# Altium footprint library Connector_PinHeader_1.27mm.PcbLib: 278 footprints (part 15 of 18)
Each footprint in its own frame and in the unit in brackets; x right, y up, seen from the top. Pads: shape width x height; smd on the part's side, far side on the other; paste and mask are expansions set on the pad; w line width, h text height; cw(c..) or ccw(c..) is an arc to the next point about the centre after c.
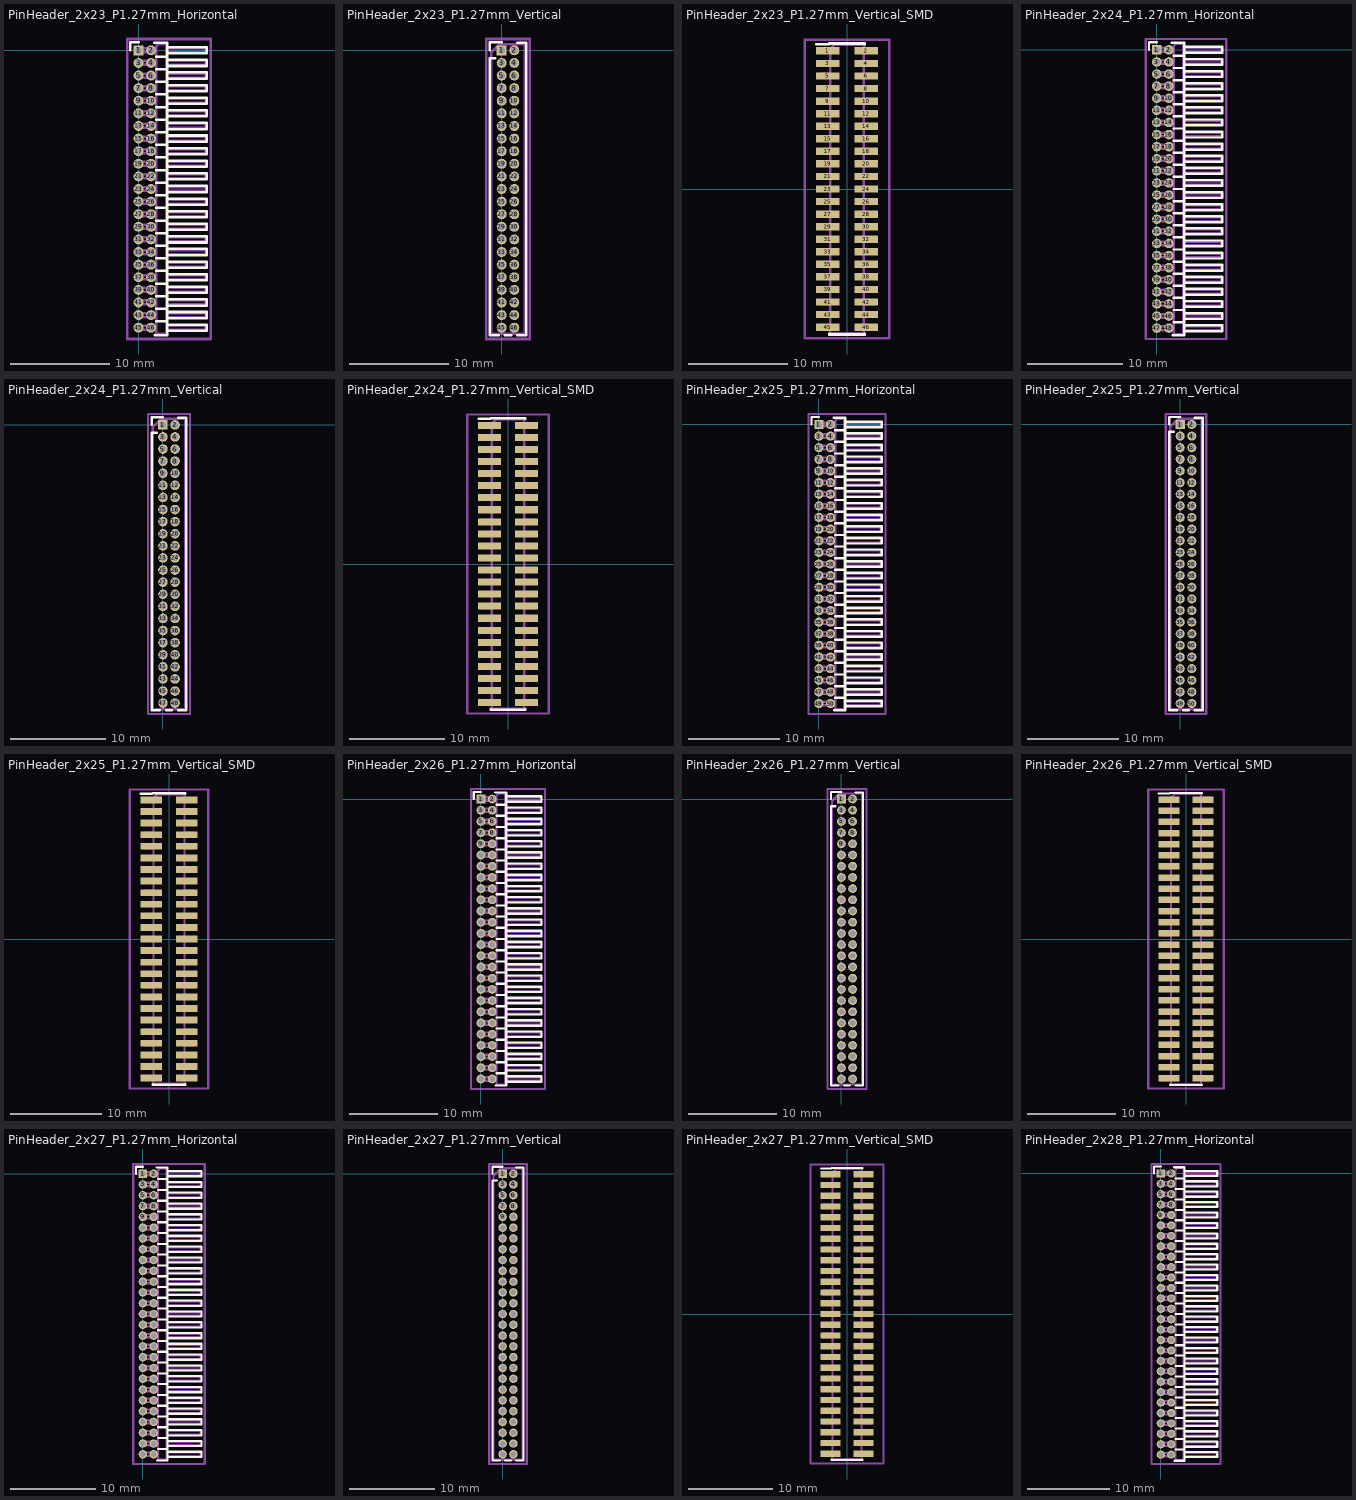
[diagram p14: the footprints below, top view; thin cyan lines are the x and y axes]

## PinHeader_2x23_P1.27mm_Horizontal [mm]
pads (46):
  rect 1x1 hole 0.65: 1(0,0)
  round 1 hole 0.65: 2(1.27,0) 3(0,-1.27) 4(1.27,-1.27) 5(0,-2.54) 6(1.27,-2.54) 7(0,-3.81) 8(1.27,-3.81) 9(0,-5.08) 10(1.27,-5.08) 11(0,-6.35) 12(1.27,-6.35) 13(0,-7.62) 14(1.27,-7.62) 15(0,-8.89) 16(1.27,-8.89) 17(0,-10.16) 18(1.27,-10.16) 19(0,-11.43) 20(1.27,-11.43) 21(0,-12.7) 22(1.27,-12.7) 23(0,-13.97) 24(1.27,-13.97) 25(0,-15.24) 26(1.27,-15.24) 27(0,-16.51) 28(1.27,-16.51) 29(0,-17.78) 30(1.27,-17.78) 31(0,-19.05) 32(1.27,-19.05) 33(0,-20.32) 34(1.27,-20.32) 35(0,-21.59) 36(1.27,-21.59) 37(0,-22.86) 38(1.27,-22.86) 39(0,-24.13) 40(1.27,-24.13) 41(0,-25.4) 42(1.27,-25.4) 43(0,-26.67) 44(1.27,-26.67) 45(0,-27.94) 46(1.27,-27.94)
F.SilkS:
  lines w0.254: -0.81,0 -0.81,0.81 0,0.81 ; 1.588,0.745 2.88,0.745 2.88,-28.685 1.66,-28.685 ; 1.773,-27.305 2.88,-27.305 ; 1.773,-26.035 2.88,-26.035 ; 1.773,-24.765 2.88,-24.765 ; 1.773,-23.495 2.88,-23.495 ; 1.773,-22.225 2.88,-22.225 ; 1.773,-20.955 2.88,-20.955 ; 1.773,-19.685 2.88,-19.685 ; 1.773,-18.415 2.88,-18.415 ; 1.773,-17.145 2.88,-17.145 ; 1.773,-15.875 2.88,-15.875 ; 1.773,-14.605 2.88,-14.605 ; 1.773,-13.335 2.88,-13.335 ; 1.773,-12.065 2.88,-12.065 ; 1.773,-10.795 2.88,-10.795 ; 1.773,-9.525 2.88,-9.525 ; 1.773,-8.255 2.88,-8.255 ; 1.773,-6.985 2.88,-6.985 ; 1.773,-5.715 2.88,-5.715 ; 1.773,-4.445 2.88,-4.445 ; 1.773,-3.175 2.88,-3.175 ; 1.773,-1.905 2.88,-1.905 ; 1.773,-0.635 2.88,-0.635 ; 2.88,-28.25 6.88,-28.25 6.88,-27.63 2.88,-27.63 ; 2.88,-26.98 6.88,-26.98 6.88,-26.36 2.88,-26.36 ; 2.88,-25.71 6.88,-25.71 6.88,-25.09 2.88,-25.09 ; 2.88,-24.44 6.88,-24.44 6.88,-23.82 2.88,-23.82 ; 2.88,-23.17 6.88,-23.17 6.88,-22.55 2.88,-22.55 ; 2.88,-21.9 6.88,-21.9 6.88,-21.28 2.88,-21.28 ; 2.88,-20.63 6.88,-20.63 6.88,-20.01 2.88,-20.01 ; 2.88,-19.36 6.88,-19.36 6.88,-18.74 2.88,-18.74 ; 2.88,-18.09 6.88,-18.09 6.88,-17.47 2.88,-17.47 ; 2.88,-16.82 6.88,-16.82 6.88,-16.2 2.88,-16.2 ; 2.88,-15.55 6.88,-15.55 6.88,-14.93 2.88,-14.93 ; 2.88,-14.28 6.88,-14.28 6.88,-13.66 2.88,-13.66 ; 2.88,-13.01 6.88,-13.01 6.88,-12.39 2.88,-12.39 ; 2.88,-11.74 6.88,-11.74 6.88,-11.12 2.88,-11.12 ; 2.88,-10.47 6.88,-10.47 6.88,-9.85 2.88,-9.85 ; 2.88,-9.2 6.88,-9.2 6.88,-8.58 2.88,-8.58 ; 2.88,-7.93 6.88,-7.93 6.88,-7.31 2.88,-7.31 ; 2.88,-6.66 6.88,-6.66 6.88,-6.04 2.88,-6.04 ; 2.88,-5.39 6.88,-5.39 6.88,-4.77 2.88,-4.77 ; 2.88,-4.12 6.88,-4.12 6.88,-3.5 2.88,-3.5 ; 2.88,-2.85 6.88,-2.85 6.88,-2.23 2.88,-2.23 ; 2.88,-1.58 6.88,-1.58 6.88,-0.96 2.88,-0.96 ; 2.88,-0.31 6.88,-0.31 6.88,0.31 2.88,0.31 2.88,-0.31
Top Assembly:
  lines w0.254: 1.77,-28.14 -0.2,-28.14 -0.2,-27.74 1.77,-27.74 ; 1.77,-26.87 -0.2,-26.87 -0.2,-26.47 1.77,-26.47 ; 1.77,-25.6 -0.2,-25.6 -0.2,-25.2 1.77,-25.2 ; 1.77,-24.33 -0.2,-24.33 -0.2,-23.93 1.77,-23.93 ; 1.77,-23.06 -0.2,-23.06 -0.2,-22.66 1.77,-22.66 ; 1.77,-21.79 -0.2,-21.79 -0.2,-21.39 1.77,-21.39 ; 1.77,-20.52 -0.2,-20.52 -0.2,-20.12 1.77,-20.12 ; 1.77,-19.25 -0.2,-19.25 -0.2,-18.85 1.77,-18.85 ; 1.77,-17.98 -0.2,-17.98 -0.2,-17.58 1.77,-17.58 ; 1.77,-16.71 -0.2,-16.71 -0.2,-16.31 1.77,-16.31 ; 1.77,-15.44 -0.2,-15.44 -0.2,-15.04 1.77,-15.04 ; 1.77,-14.17 -0.2,-14.17 -0.2,-13.77 1.77,-13.77 ; 1.77,-12.9 -0.2,-12.9 -0.2,-12.5 1.77,-12.5 ; 1.77,-11.63 -0.2,-11.63 -0.2,-11.23 1.77,-11.23 ; 1.77,-10.36 -0.2,-10.36 -0.2,-9.96 1.77,-9.96 ; 1.77,-9.09 -0.2,-9.09 -0.2,-8.69 1.77,-8.69 ; 1.77,-7.82 -0.2,-7.82 -0.2,-7.42 1.77,-7.42 ; 1.77,-6.55 -0.2,-6.55 -0.2,-6.15 1.77,-6.15 ; 1.77,-5.28 -0.2,-5.28 -0.2,-4.88 1.77,-4.88 ; 1.77,-4.01 -0.2,-4.01 -0.2,-3.61 1.77,-3.61 ; 1.77,-2.74 -0.2,-2.74 -0.2,-2.34 1.77,-2.34 ; 1.77,-1.47 -0.2,-1.47 -0.2,-1.07 1.77,-1.07 ; 1.77,-0.2 -0.2,-0.2 -0.2,0.2 1.77,0.2 ; 2.77,-28.14 6.77,-28.14 6.77,-27.74 2.77,-27.74 ; 2.77,-26.87 6.77,-26.87 6.77,-26.47 2.77,-26.47 ; 2.77,-25.6 6.77,-25.6 6.77,-25.2 2.77,-25.2 ; 2.77,-24.33 6.77,-24.33 6.77,-23.93 2.77,-23.93 ; 2.77,-23.06 6.77,-23.06 6.77,-22.66 2.77,-22.66 ; 2.77,-21.79 6.77,-21.79 6.77,-21.39 2.77,-21.39 ; 2.77,-20.52 6.77,-20.52 6.77,-20.12 2.77,-20.12 ; 2.77,-19.25 6.77,-19.25 6.77,-18.85 2.77,-18.85 ; 2.77,-17.98 6.77,-17.98 6.77,-17.58 2.77,-17.58 ; 2.77,-16.71 6.77,-16.71 6.77,-16.31 2.77,-16.31 ; 2.77,-15.44 6.77,-15.44 6.77,-15.04 2.77,-15.04 ; 2.77,-14.17 6.77,-14.17 6.77,-13.77 2.77,-13.77 ; 2.77,-12.9 6.77,-12.9 6.77,-12.5 2.77,-12.5 ; 2.77,-11.63 6.77,-11.63 6.77,-11.23 2.77,-11.23 ; 2.77,-10.36 6.77,-10.36 6.77,-9.96 2.77,-9.96 ; 2.77,-9.09 6.77,-9.09 6.77,-8.69 2.77,-8.69 ; 2.77,-7.82 6.77,-7.82 6.77,-7.42 2.77,-7.42 ; 2.77,-6.55 6.77,-6.55 6.77,-6.15 2.77,-6.15 ; 2.77,-5.28 6.77,-5.28 6.77,-4.88 2.77,-4.88 ; 2.77,-4.01 6.77,-4.01 6.77,-3.61 2.77,-3.61 ; 2.77,-2.74 6.77,-2.74 6.77,-2.34 2.77,-2.34 ; 2.77,-1.47 6.77,-1.47 6.77,-1.07 2.77,-1.07 ; 2.77,-0.2 6.77,-0.2 6.77,0.2 2.77,0.2 ; 1.77,-28.575 2.77,-28.575 2.77,0.635 2.02,0.635 1.77,0.385 1.77,-28.575
  text "'.Designator'" at 2.774,-16.398 h0.6
Top Courtyard:
  lines w0.254: -1.14,-29.08 7.28,-29.08 7.28,1.14 -1.14,1.14 -1.14,-29.08
Top Designator:
  text ".Designator" at -4.548,-14.478 h1.52

## PinHeader_2x23_P1.27mm_Vertical [mm]
pads (46):
  rect 1x1 hole 0.65: 1(0,0)
  round 1 hole 0.65: 2(1.27,0) 3(0,-1.27) 4(1.27,-1.27) 5(0,-2.54) 6(1.27,-2.54) 7(0,-3.81) 8(1.27,-3.81) 9(0,-5.08) 10(1.27,-5.08) 11(0,-6.35) 12(1.27,-6.35) 13(0,-7.62) 14(1.27,-7.62) 15(0,-8.89) 16(1.27,-8.89) 17(0,-10.16) 18(1.27,-10.16) 19(0,-11.43) 20(1.27,-11.43) 21(0,-12.7) 22(1.27,-12.7) 23(0,-13.97) 24(1.27,-13.97) 25(0,-15.24) 26(1.27,-15.24) 27(0,-16.51) 28(1.27,-16.51) 29(0,-17.78) 30(1.27,-17.78) 31(0,-19.05) 32(1.27,-19.05) 33(0,-20.32) 34(1.27,-20.32) 35(0,-21.59) 36(1.27,-21.59) 37(0,-22.86) 38(1.27,-22.86) 39(0,-24.13) 40(1.27,-24.13) 41(0,-25.4) 42(1.27,-25.4) 43(0,-26.67) 44(1.27,-26.67) 45(0,-27.94) 46(1.27,-27.94)
F.SilkS:
  lines w0.254: -1.18,0 -1.18,0.81 0,0.81 ; -0.667,-0.81 -1.18,-0.81 -1.18,-28.685 -0.318,-28.685 ; 0.318,-28.685 0.952,-28.685 ; 1.588,-28.685 2.45,-28.685 2.45,0.745 1.588,0.745
Top Assembly:
  lines w0.254: -1.07,-28.575 2.34,-28.575 2.34,0.635 -0.218,0.635 -1.07,-0.218 -1.07,-28.575
  text "'.Designator'" at 1.475,-18.017 h1
Top Courtyard:
  lines w0.254: -1.57,-29.08 2.84,-29.08 2.84,1.14 -1.57,1.14 -1.57,-29.08
Top Designator:
  text ".Designator" at -6.983,-14.478 h1.52

## PinHeader_2x23_P1.27mm_Vertical_SMD [mm]
pads (46):
  rect 2.4x0.74 smd: 1(-1.95,13.97) 2(1.95,13.97) 3(-1.95,12.7) 4(1.95,12.7) 5(-1.95,11.43) 6(1.95,11.43) 7(-1.95,10.16) 8(1.95,10.16) 9(-1.95,8.89) 10(1.95,8.89) 11(-1.95,7.62) 12(1.95,7.62) 13(-1.95,6.35) 14(1.95,6.35) 15(-1.95,5.08) 16(1.95,5.08) 17(-1.95,3.81) 18(1.95,3.81) 19(-1.95,2.54) 20(1.95,2.54) 21(-1.95,1.27) 22(1.95,1.27) 23(-1.95,0) 24(1.95,0) 25(-1.95,-1.27) 26(1.95,-1.27) 27(-1.95,-2.54) 28(1.95,-2.54) 29(-1.95,-3.81) 30(1.95,-3.81) 31(-1.95,-5.08) 32(1.95,-5.08) 33(-1.95,-6.35) 34(1.95,-6.35) 35(-1.95,-7.62) 36(1.95,-7.62) 37(-1.95,-8.89) 38(1.95,-8.89) 39(-1.95,-10.16) 40(1.95,-10.16) 41(-1.95,-11.43) 42(1.95,-11.43) 43(-1.95,-12.7) 44(1.95,-12.7) 45(-1.95,-13.97) 46(1.95,-13.97)
F.SilkS:
  lines w0.254: -3.09,14.65 -1.815,14.65 -1.815,14.715 1.815,14.715 1.815,14.65 ; -1.815,-14.65 -1.815,-14.715 1.815,-14.715 1.815,-14.65
Top Assembly:
  lines w0.254: -1.705,-14.17 -2.75,-14.17 -2.75,-13.77 -1.705,-13.77 ; -1.705,-12.9 -2.75,-12.9 -2.75,-12.5 -1.705,-12.5 ; -1.705,-11.63 -2.75,-11.63 -2.75,-11.23 -1.705,-11.23 ; -1.705,-10.36 -2.75,-10.36 -2.75,-9.96 -1.705,-9.96 ; -1.705,-9.09 -2.75,-9.09 -2.75,-8.69 -1.705,-8.69 ; -1.705,-7.82 -2.75,-7.82 -2.75,-7.42 -1.705,-7.42 ; -1.705,-6.55 -2.75,-6.55 -2.75,-6.15 -1.705,-6.15 ; -1.705,-5.28 -2.75,-5.28 -2.75,-4.88 -1.705,-4.88 ; -1.705,-4.01 -2.75,-4.01 -2.75,-3.61 -1.705,-3.61 ; -1.705,-2.74 -2.75,-2.74 -2.75,-2.34 -1.705,-2.34 ; -1.705,-1.47 -2.75,-1.47 -2.75,-1.07 -1.705,-1.07 ; -1.705,-0.2 -2.75,-0.2 -2.75,0.2 -1.705,0.2 ; -1.705,1.07 -2.75,1.07 -2.75,1.47 -1.705,1.47 ; -1.705,2.34 -2.75,2.34 -2.75,2.74 -1.705,2.74 ; -1.705,3.61 -2.75,3.61 -2.75,4.01 -1.705,4.01 ; -1.705,4.88 -2.75,4.88 -2.75,5.28 -1.705,5.28 ; -1.705,6.15 -2.75,6.15 -2.75,6.55 -1.705,6.55 ; -1.705,7.42 -2.75,7.42 -2.75,7.82 -1.705,7.82 ; -1.705,8.69 -2.75,8.69 -2.75,9.09 -1.705,9.09 ; -1.705,9.96 -2.75,9.96 -2.75,10.36 -1.705,10.36 ; -1.705,11.23 -2.75,11.23 -2.75,11.63 -1.705,11.63 ; -1.705,12.5 -2.75,12.5 -2.75,12.9 -1.705,12.9 ; -1.705,13.77 -2.75,13.77 -2.75,14.17 -1.705,14.17 ; 1.705,-14.17 2.75,-14.17 2.75,-13.77 1.705,-13.77 ; 1.705,-12.9 2.75,-12.9 2.75,-12.5 1.705,-12.5 ; 1.705,-11.63 2.75,-11.63 2.75,-11.23 1.705,-11.23 ; 1.705,-10.36 2.75,-10.36 2.75,-9.96 1.705,-9.96 ; 1.705,-9.09 2.75,-9.09 2.75,-8.69 1.705,-8.69 ; 1.705,-7.82 2.75,-7.82 2.75,-7.42 1.705,-7.42 ; 1.705,-6.55 2.75,-6.55 2.75,-6.15 1.705,-6.15 ; 1.705,-5.28 2.75,-5.28 2.75,-4.88 1.705,-4.88 ; 1.705,-4.01 2.75,-4.01 2.75,-3.61 1.705,-3.61 ; 1.705,-2.74 2.75,-2.74 2.75,-2.34 1.705,-2.34 ; 1.705,-1.47 2.75,-1.47 2.75,-1.07 1.705,-1.07 ; 1.705,-0.2 2.75,-0.2 2.75,0.2 1.705,0.2 ; 1.705,1.07 2.75,1.07 2.75,1.47 1.705,1.47 ; 1.705,2.34 2.75,2.34 2.75,2.74 1.705,2.74 ; 1.705,3.61 2.75,3.61 2.75,4.01 1.705,4.01 ; 1.705,4.88 2.75,4.88 2.75,5.28 1.705,5.28 ; 1.705,6.15 2.75,6.15 2.75,6.55 1.705,6.55 ; 1.705,7.42 2.75,7.42 2.75,7.82 1.705,7.82 ; 1.705,8.69 2.75,8.69 2.75,9.09 1.705,9.09 ; 1.705,9.96 2.75,9.96 2.75,10.36 1.705,10.36 ; 1.705,11.23 2.75,11.23 2.75,11.63 1.705,11.63 ; 1.705,12.5 2.75,12.5 2.75,12.9 1.705,12.9 ; 1.705,13.77 2.75,13.77 2.75,14.17 1.705,14.17 ; -1.705,14.17 -1.705,-14.605 1.705,-14.605 1.705,14.605 -1.27,14.605 -1.705,14.17
  text "'.Designator'" at 0.84,-4.047 h1
Top Courtyard:
  lines w0.254: -4.29,-15.11 4.29,-15.11 4.29,15.11 -4.29,15.11 -4.29,-15.11
Top Designator:
  text ".Designator" at -7.618,-0.508 h1.52

## PinHeader_2x24_P1.27mm_Horizontal [mm]
pads (48):
  rect 1x1 hole 0.65: 1(0,0)
  round 1 hole 0.65: 2(1.27,0) 3(0,-1.27) 4(1.27,-1.27) 5(0,-2.54) 6(1.27,-2.54) 7(0,-3.81) 8(1.27,-3.81) 9(0,-5.08) 10(1.27,-5.08) 11(0,-6.35) 12(1.27,-6.35) 13(0,-7.62) 14(1.27,-7.62) 15(0,-8.89) 16(1.27,-8.89) 17(0,-10.16) 18(1.27,-10.16) 19(0,-11.43) 20(1.27,-11.43) 21(0,-12.7) 22(1.27,-12.7) 23(0,-13.97) 24(1.27,-13.97) 25(0,-15.24) 26(1.27,-15.24) 27(0,-16.51) 28(1.27,-16.51) 29(0,-17.78) 30(1.27,-17.78) 31(0,-19.05) 32(1.27,-19.05) 33(0,-20.32) 34(1.27,-20.32) 35(0,-21.59) 36(1.27,-21.59) 37(0,-22.86) 38(1.27,-22.86) 39(0,-24.13) 40(1.27,-24.13) 41(0,-25.4) 42(1.27,-25.4) 43(0,-26.67) 44(1.27,-26.67) 45(0,-27.94) 46(1.27,-27.94) 47(0,-29.21) 48(1.27,-29.21)
F.SilkS:
  lines w0.254: -0.81,0 -0.81,0.81 0,0.81 ; 1.588,0.745 2.88,0.745 2.88,-29.955 1.66,-29.955 ; 1.773,-28.575 2.88,-28.575 ; 1.773,-27.305 2.88,-27.305 ; 1.773,-26.035 2.88,-26.035 ; 1.773,-24.765 2.88,-24.765 ; 1.773,-23.495 2.88,-23.495 ; 1.773,-22.225 2.88,-22.225 ; 1.773,-20.955 2.88,-20.955 ; 1.773,-19.685 2.88,-19.685 ; 1.773,-18.415 2.88,-18.415 ; 1.773,-17.145 2.88,-17.145 ; 1.773,-15.875 2.88,-15.875 ; 1.773,-14.605 2.88,-14.605 ; 1.773,-13.335 2.88,-13.335 ; 1.773,-12.065 2.88,-12.065 ; 1.773,-10.795 2.88,-10.795 ; 1.773,-9.525 2.88,-9.525 ; 1.773,-8.255 2.88,-8.255 ; 1.773,-6.985 2.88,-6.985 ; 1.773,-5.715 2.88,-5.715 ; 1.773,-4.445 2.88,-4.445 ; 1.773,-3.175 2.88,-3.175 ; 1.773,-1.905 2.88,-1.905 ; 1.773,-0.635 2.88,-0.635 ; 2.88,-29.52 6.88,-29.52 6.88,-28.9 2.88,-28.9 ; 2.88,-28.25 6.88,-28.25 6.88,-27.63 2.88,-27.63 ; 2.88,-26.98 6.88,-26.98 6.88,-26.36 2.88,-26.36 ; 2.88,-25.71 6.88,-25.71 6.88,-25.09 2.88,-25.09 ; 2.88,-24.44 6.88,-24.44 6.88,-23.82 2.88,-23.82 ; 2.88,-23.17 6.88,-23.17 6.88,-22.55 2.88,-22.55 ; 2.88,-21.9 6.88,-21.9 6.88,-21.28 2.88,-21.28 ; 2.88,-20.63 6.88,-20.63 6.88,-20.01 2.88,-20.01 ; 2.88,-19.36 6.88,-19.36 6.88,-18.74 2.88,-18.74 ; 2.88,-18.09 6.88,-18.09 6.88,-17.47 2.88,-17.47 ; 2.88,-16.82 6.88,-16.82 6.88,-16.2 2.88,-16.2 ; 2.88,-15.55 6.88,-15.55 6.88,-14.93 2.88,-14.93 ; 2.88,-14.28 6.88,-14.28 6.88,-13.66 2.88,-13.66 ; 2.88,-13.01 6.88,-13.01 6.88,-12.39 2.88,-12.39 ; 2.88,-11.74 6.88,-11.74 6.88,-11.12 2.88,-11.12 ; 2.88,-10.47 6.88,-10.47 6.88,-9.85 2.88,-9.85 ; 2.88,-9.2 6.88,-9.2 6.88,-8.58 2.88,-8.58 ; 2.88,-7.93 6.88,-7.93 6.88,-7.31 2.88,-7.31 ; 2.88,-6.66 6.88,-6.66 6.88,-6.04 2.88,-6.04 ; 2.88,-5.39 6.88,-5.39 6.88,-4.77 2.88,-4.77 ; 2.88,-4.12 6.88,-4.12 6.88,-3.5 2.88,-3.5 ; 2.88,-2.85 6.88,-2.85 6.88,-2.23 2.88,-2.23 ; 2.88,-1.58 6.88,-1.58 6.88,-0.96 2.88,-0.96 ; 2.88,-0.31 6.88,-0.31 6.88,0.31 2.88,0.31 2.88,-0.31
Top Assembly:
  lines w0.254: 1.77,-29.41 -0.2,-29.41 -0.2,-29.01 1.77,-29.01 ; 1.77,-28.14 -0.2,-28.14 -0.2,-27.74 1.77,-27.74 ; 1.77,-26.87 -0.2,-26.87 -0.2,-26.47 1.77,-26.47 ; 1.77,-25.6 -0.2,-25.6 -0.2,-25.2 1.77,-25.2 ; 1.77,-24.33 -0.2,-24.33 -0.2,-23.93 1.77,-23.93 ; 1.77,-23.06 -0.2,-23.06 -0.2,-22.66 1.77,-22.66 ; 1.77,-21.79 -0.2,-21.79 -0.2,-21.39 1.77,-21.39 ; 1.77,-20.52 -0.2,-20.52 -0.2,-20.12 1.77,-20.12 ; 1.77,-19.25 -0.2,-19.25 -0.2,-18.85 1.77,-18.85 ; 1.77,-17.98 -0.2,-17.98 -0.2,-17.58 1.77,-17.58 ; 1.77,-16.71 -0.2,-16.71 -0.2,-16.31 1.77,-16.31 ; 1.77,-15.44 -0.2,-15.44 -0.2,-15.04 1.77,-15.04 ; 1.77,-14.17 -0.2,-14.17 -0.2,-13.77 1.77,-13.77 ; 1.77,-12.9 -0.2,-12.9 -0.2,-12.5 1.77,-12.5 ; 1.77,-11.63 -0.2,-11.63 -0.2,-11.23 1.77,-11.23 ; 1.77,-10.36 -0.2,-10.36 -0.2,-9.96 1.77,-9.96 ; 1.77,-9.09 -0.2,-9.09 -0.2,-8.69 1.77,-8.69 ; 1.77,-7.82 -0.2,-7.82 -0.2,-7.42 1.77,-7.42 ; 1.77,-6.55 -0.2,-6.55 -0.2,-6.15 1.77,-6.15 ; 1.77,-5.28 -0.2,-5.28 -0.2,-4.88 1.77,-4.88 ; 1.77,-4.01 -0.2,-4.01 -0.2,-3.61 1.77,-3.61 ; 1.77,-2.74 -0.2,-2.74 -0.2,-2.34 1.77,-2.34 ; 1.77,-1.47 -0.2,-1.47 -0.2,-1.07 1.77,-1.07 ; 1.77,-0.2 -0.2,-0.2 -0.2,0.2 1.77,0.2 ; 2.77,-29.41 6.77,-29.41 6.77,-29.01 2.77,-29.01 ; 2.77,-28.14 6.77,-28.14 6.77,-27.74 2.77,-27.74 ; 2.77,-26.87 6.77,-26.87 6.77,-26.47 2.77,-26.47 ; 2.77,-25.6 6.77,-25.6 6.77,-25.2 2.77,-25.2 ; 2.77,-24.33 6.77,-24.33 6.77,-23.93 2.77,-23.93 ; 2.77,-23.06 6.77,-23.06 6.77,-22.66 2.77,-22.66 ; 2.77,-21.79 6.77,-21.79 6.77,-21.39 2.77,-21.39 ; 2.77,-20.52 6.77,-20.52 6.77,-20.12 2.77,-20.12 ; 2.77,-19.25 6.77,-19.25 6.77,-18.85 2.77,-18.85 ; 2.77,-17.98 6.77,-17.98 6.77,-17.58 2.77,-17.58 ; 2.77,-16.71 6.77,-16.71 6.77,-16.31 2.77,-16.31 ; 2.77,-15.44 6.77,-15.44 6.77,-15.04 2.77,-15.04 ; 2.77,-14.17 6.77,-14.17 6.77,-13.77 2.77,-13.77 ; 2.77,-12.9 6.77,-12.9 6.77,-12.5 2.77,-12.5 ; 2.77,-11.63 6.77,-11.63 6.77,-11.23 2.77,-11.23 ; 2.77,-10.36 6.77,-10.36 6.77,-9.96 2.77,-9.96 ; 2.77,-9.09 6.77,-9.09 6.77,-8.69 2.77,-8.69 ; 2.77,-7.82 6.77,-7.82 6.77,-7.42 2.77,-7.42 ; 2.77,-6.55 6.77,-6.55 6.77,-6.15 2.77,-6.15 ; 2.77,-5.28 6.77,-5.28 6.77,-4.88 2.77,-4.88 ; 2.77,-4.01 6.77,-4.01 6.77,-3.61 2.77,-3.61 ; 2.77,-2.74 6.77,-2.74 6.77,-2.34 2.77,-2.34 ; 2.77,-1.47 6.77,-1.47 6.77,-1.07 2.77,-1.07 ; 2.77,-0.2 6.77,-0.2 6.77,0.2 2.77,0.2 ; 1.77,-29.845 2.77,-29.845 2.77,0.635 2.02,0.635 1.77,0.385 1.77,-29.845
  text "'.Designator'" at 2.774,-17.033 h0.6
Top Courtyard:
  lines w0.254: -1.14,-30.35 7.28,-30.35 7.28,1.14 -1.14,1.14 -1.14,-30.35
Top Designator:
  text ".Designator" at -4.548,-15.113 h1.52

## PinHeader_2x24_P1.27mm_Vertical [mm]
pads (48):
  rect 1x1 hole 0.65: 1(0,0)
  round 1 hole 0.65: 2(1.27,0) 3(0,-1.27) 4(1.27,-1.27) 5(0,-2.54) 6(1.27,-2.54) 7(0,-3.81) 8(1.27,-3.81) 9(0,-5.08) 10(1.27,-5.08) 11(0,-6.35) 12(1.27,-6.35) 13(0,-7.62) 14(1.27,-7.62) 15(0,-8.89) 16(1.27,-8.89) 17(0,-10.16) 18(1.27,-10.16) 19(0,-11.43) 20(1.27,-11.43) 21(0,-12.7) 22(1.27,-12.7) 23(0,-13.97) 24(1.27,-13.97) 25(0,-15.24) 26(1.27,-15.24) 27(0,-16.51) 28(1.27,-16.51) 29(0,-17.78) 30(1.27,-17.78) 31(0,-19.05) 32(1.27,-19.05) 33(0,-20.32) 34(1.27,-20.32) 35(0,-21.59) 36(1.27,-21.59) 37(0,-22.86) 38(1.27,-22.86) 39(0,-24.13) 40(1.27,-24.13) 41(0,-25.4) 42(1.27,-25.4) 43(0,-26.67) 44(1.27,-26.67) 45(0,-27.94) 46(1.27,-27.94) 47(0,-29.21) 48(1.27,-29.21)
F.SilkS:
  lines w0.254: -1.18,0 -1.18,0.81 0,0.81 ; -0.667,-0.81 -1.18,-0.81 -1.18,-29.955 -0.318,-29.955 ; 0.318,-29.955 0.952,-29.955 ; 1.588,-29.955 2.45,-29.955 2.45,0.745 1.588,0.745
Top Assembly:
  lines w0.254: -1.07,-29.845 2.34,-29.845 2.34,0.635 -0.218,0.635 -1.07,-0.218 -1.07,-29.845
  text "'.Designator'" at 1.475,-18.652 h1
Top Courtyard:
  lines w0.254: -1.57,-30.35 2.84,-30.35 2.84,1.14 -1.57,1.14 -1.57,-30.35
Top Designator:
  text ".Designator" at -6.983,-15.113 h1.52

## PinHeader_2x24_P1.27mm_Vertical_SMD [mm]
pads (48):
  rect 2.4x0.74 smd: 1(-1.95,14.605) 2(1.95,14.605) 3(-1.95,13.335) 4(1.95,13.335) 5(-1.95,12.065) 6(1.95,12.065) 7(-1.95,10.795) 8(1.95,10.795) 9(-1.95,9.525) 10(1.95,9.525) 11(-1.95,8.255) 12(1.95,8.255) 13(-1.95,6.985) 14(1.95,6.985) 15(-1.95,5.715) 16(1.95,5.715) 17(-1.95,4.445) 18(1.95,4.445) 19(-1.95,3.175) 20(1.95,3.175) 21(-1.95,1.905) 22(1.95,1.905) 23(-1.95,0.635) 24(1.95,0.635) 25(-1.95,-0.635) 26(1.95,-0.635) 27(-1.95,-1.905) 28(1.95,-1.905) 29(-1.95,-3.175) 30(1.95,-3.175) 31(-1.95,-4.445) 32(1.95,-4.445) 33(-1.95,-5.715) 34(1.95,-5.715) 35(-1.95,-6.985) 36(1.95,-6.985) 37(-1.95,-8.255) 38(1.95,-8.255) 39(-1.95,-9.525) 40(1.95,-9.525) 41(-1.95,-10.795) 42(1.95,-10.795) 43(-1.95,-12.065) 44(1.95,-12.065) 45(-1.95,-13.335) 46(1.95,-13.335) 47(-1.95,-14.605) 48(1.95,-14.605)
F.SilkS:
  lines w0.254: -3.09,15.285 -1.815,15.285 -1.815,15.35 1.815,15.35 1.815,15.285 ; -1.815,-15.285 -1.815,-15.35 1.815,-15.35 1.815,-15.285
Top Assembly:
  lines w0.254: -1.705,-14.805 -2.75,-14.805 -2.75,-14.405 -1.705,-14.405 ; -1.705,-13.535 -2.75,-13.535 -2.75,-13.135 -1.705,-13.135 ; -1.705,-12.265 -2.75,-12.265 -2.75,-11.865 -1.705,-11.865 ; -1.705,-10.995 -2.75,-10.995 -2.75,-10.595 -1.705,-10.595 ; -1.705,-9.725 -2.75,-9.725 -2.75,-9.325 -1.705,-9.325 ; -1.705,-8.455 -2.75,-8.455 -2.75,-8.055 -1.705,-8.055 ; -1.705,-7.185 -2.75,-7.185 -2.75,-6.785 -1.705,-6.785 ; -1.705,-5.915 -2.75,-5.915 -2.75,-5.515 -1.705,-5.515 ; -1.705,-4.645 -2.75,-4.645 -2.75,-4.245 -1.705,-4.245 ; -1.705,-3.375 -2.75,-3.375 -2.75,-2.975 -1.705,-2.975 ; -1.705,-2.105 -2.75,-2.105 -2.75,-1.705 -1.705,-1.705 ; -1.705,-0.835 -2.75,-0.835 -2.75,-0.435 -1.705,-0.435 ; -1.705,0.435 -2.75,0.435 -2.75,0.835 -1.705,0.835 ; -1.705,1.705 -2.75,1.705 -2.75,2.105 -1.705,2.105 ; -1.705,2.975 -2.75,2.975 -2.75,3.375 -1.705,3.375 ; -1.705,4.245 -2.75,4.245 -2.75,4.645 -1.705,4.645 ; -1.705,5.515 -2.75,5.515 -2.75,5.915 -1.705,5.915 ; -1.705,6.785 -2.75,6.785 -2.75,7.185 -1.705,7.185 ; -1.705,8.055 -2.75,8.055 -2.75,8.455 -1.705,8.455 ; -1.705,9.325 -2.75,9.325 -2.75,9.725 -1.705,9.725 ; -1.705,10.595 -2.75,10.595 -2.75,10.995 -1.705,10.995 ; -1.705,11.865 -2.75,11.865 -2.75,12.265 -1.705,12.265 ; -1.705,13.135 -2.75,13.135 -2.75,13.535 -1.705,13.535 ; -1.705,14.405 -2.75,14.405 -2.75,14.805 -1.705,14.805 ; 1.705,-14.805 2.75,-14.805 2.75,-14.405 1.705,-14.405 ; 1.705,-13.535 2.75,-13.535 2.75,-13.135 1.705,-13.135 ; 1.705,-12.265 2.75,-12.265 2.75,-11.865 1.705,-11.865 ; 1.705,-10.995 2.75,-10.995 2.75,-10.595 1.705,-10.595 ; 1.705,-9.725 2.75,-9.725 2.75,-9.325 1.705,-9.325 ; 1.705,-8.455 2.75,-8.455 2.75,-8.055 1.705,-8.055 ; 1.705,-7.185 2.75,-7.185 2.75,-6.785 1.705,-6.785 ; 1.705,-5.915 2.75,-5.915 2.75,-5.515 1.705,-5.515 ; 1.705,-4.645 2.75,-4.645 2.75,-4.245 1.705,-4.245 ; 1.705,-3.375 2.75,-3.375 2.75,-2.975 1.705,-2.975 ; 1.705,-2.105 2.75,-2.105 2.75,-1.705 1.705,-1.705 ; 1.705,-0.835 2.75,-0.835 2.75,-0.435 1.705,-0.435 ; 1.705,0.435 2.75,0.435 2.75,0.835 1.705,0.835 ; 1.705,1.705 2.75,1.705 2.75,2.105 1.705,2.105 ; 1.705,2.975 2.75,2.975 2.75,3.375 1.705,3.375 ; 1.705,4.245 2.75,4.245 2.75,4.645 1.705,4.645 ; 1.705,5.515 2.75,5.515 2.75,5.915 1.705,5.915 ; 1.705,6.785 2.75,6.785 2.75,7.185 1.705,7.185 ; 1.705,8.055 2.75,8.055 2.75,8.455 1.705,8.455 ; 1.705,9.325 2.75,9.325 2.75,9.725 1.705,9.725 ; 1.705,10.595 2.75,10.595 2.75,10.995 1.705,10.995 ; 1.705,11.865 2.75,11.865 2.75,12.265 1.705,12.265 ; 1.705,13.135 2.75,13.135 2.75,13.535 1.705,13.535 ; 1.705,14.405 2.75,14.405 2.75,14.805 1.705,14.805 ; -1.705,14.805 -1.705,-15.24 1.705,-15.24 1.705,15.24 -1.27,15.24 -1.705,14.805
  text "'.Designator'" at 0.84,-4.047 h1
Top Courtyard:
  lines w0.254: -4.29,-15.75 4.29,-15.75 4.29,15.75 -4.29,15.75 -4.29,-15.75
Top Designator:
  text ".Designator" at -7.618,-0.508 h1.52

## PinHeader_2x25_P1.27mm_Horizontal [mm]
pads (50):
  rect 1x1 hole 0.65: 1(0,0)
  round 1 hole 0.65: 2(1.27,0) 3(0,-1.27) 4(1.27,-1.27) 5(0,-2.54) 6(1.27,-2.54) 7(0,-3.81) 8(1.27,-3.81) 9(0,-5.08) 10(1.27,-5.08) 11(0,-6.35) 12(1.27,-6.35) 13(0,-7.62) 14(1.27,-7.62) 15(0,-8.89) 16(1.27,-8.89) 17(0,-10.16) 18(1.27,-10.16) 19(0,-11.43) 20(1.27,-11.43) 21(0,-12.7) 22(1.27,-12.7) 23(0,-13.97) 24(1.27,-13.97) 25(0,-15.24) 26(1.27,-15.24) 27(0,-16.51) 28(1.27,-16.51) 29(0,-17.78) 30(1.27,-17.78) 31(0,-19.05) 32(1.27,-19.05) 33(0,-20.32) 34(1.27,-20.32) 35(0,-21.59) 36(1.27,-21.59) 37(0,-22.86) 38(1.27,-22.86) 39(0,-24.13) 40(1.27,-24.13) 41(0,-25.4) 42(1.27,-25.4) 43(0,-26.67) 44(1.27,-26.67) 45(0,-27.94) 46(1.27,-27.94) 47(0,-29.21) 48(1.27,-29.21) 49(0,-30.48) 50(1.27,-30.48)
F.SilkS:
  lines w0.254: -0.81,0 -0.81,0.81 0,0.81 ; 1.588,0.745 2.88,0.745 2.88,-31.225 1.66,-31.225 ; 1.773,-29.845 2.88,-29.845 ; 1.773,-28.575 2.88,-28.575 ; 1.773,-27.305 2.88,-27.305 ; 1.773,-26.035 2.88,-26.035 ; 1.773,-24.765 2.88,-24.765 ; 1.773,-23.495 2.88,-23.495 ; 1.773,-22.225 2.88,-22.225 ; 1.773,-20.955 2.88,-20.955 ; 1.773,-19.685 2.88,-19.685 ; 1.773,-18.415 2.88,-18.415 ; 1.773,-17.145 2.88,-17.145 ; 1.773,-15.875 2.88,-15.875 ; 1.773,-14.605 2.88,-14.605 ; 1.773,-13.335 2.88,-13.335 ; 1.773,-12.065 2.88,-12.065 ; 1.773,-10.795 2.88,-10.795 ; 1.773,-9.525 2.88,-9.525 ; 1.773,-8.255 2.88,-8.255 ; 1.773,-6.985 2.88,-6.985 ; 1.773,-5.715 2.88,-5.715 ; 1.773,-4.445 2.88,-4.445 ; 1.773,-3.175 2.88,-3.175 ; 1.773,-1.905 2.88,-1.905 ; 1.773,-0.635 2.88,-0.635 ; 2.88,-30.79 6.88,-30.79 6.88,-30.17 2.88,-30.17 ; 2.88,-29.52 6.88,-29.52 6.88,-28.9 2.88,-28.9 ; 2.88,-28.25 6.88,-28.25 6.88,-27.63 2.88,-27.63 ; 2.88,-26.98 6.88,-26.98 6.88,-26.36 2.88,-26.36 ; 2.88,-25.71 6.88,-25.71 6.88,-25.09 2.88,-25.09 ; 2.88,-24.44 6.88,-24.44 6.88,-23.82 2.88,-23.82 ; 2.88,-23.17 6.88,-23.17 6.88,-22.55 2.88,-22.55 ; 2.88,-21.9 6.88,-21.9 6.88,-21.28 2.88,-21.28 ; 2.88,-20.63 6.88,-20.63 6.88,-20.01 2.88,-20.01 ; 2.88,-19.36 6.88,-19.36 6.88,-18.74 2.88,-18.74 ; 2.88,-18.09 6.88,-18.09 6.88,-17.47 2.88,-17.47 ; 2.88,-16.82 6.88,-16.82 6.88,-16.2 2.88,-16.2 ; 2.88,-15.55 6.88,-15.55 6.88,-14.93 2.88,-14.93 ; 2.88,-14.28 6.88,-14.28 6.88,-13.66 2.88,-13.66 ; 2.88,-13.01 6.88,-13.01 6.88,-12.39 2.88,-12.39 ; 2.88,-11.74 6.88,-11.74 6.88,-11.12 2.88,-11.12 ; 2.88,-10.47 6.88,-10.47 6.88,-9.85 2.88,-9.85 ; 2.88,-9.2 6.88,-9.2 6.88,-8.58 2.88,-8.58 ; 2.88,-7.93 6.88,-7.93 6.88,-7.31 2.88,-7.31 ; 2.88,-6.66 6.88,-6.66 6.88,-6.04 2.88,-6.04 ; 2.88,-5.39 6.88,-5.39 6.88,-4.77 2.88,-4.77 ; 2.88,-4.12 6.88,-4.12 6.88,-3.5 2.88,-3.5 ; 2.88,-2.85 6.88,-2.85 6.88,-2.23 2.88,-2.23 ; 2.88,-1.58 6.88,-1.58 6.88,-0.96 2.88,-0.96 ; 2.88,-0.31 6.88,-0.31 6.88,0.31 2.88,0.31 2.88,-0.31
Top Assembly:
  drawing of 155 lines, arcs and shapes, not listed
  text "'.Designator'" at 2.774,-17.668 h0.6
Top Courtyard:
  lines w0.254: -1.14,-31.62 7.28,-31.62 7.28,1.14 -1.14,1.14 -1.14,-31.62
Top Designator:
  text ".Designator" at -4.548,-15.748 h1.52

## PinHeader_2x25_P1.27mm_Vertical [mm]
pads (50):
  rect 1x1 hole 0.65: 1(0,0)
  round 1 hole 0.65: 2(1.27,0) 3(0,-1.27) 4(1.27,-1.27) 5(0,-2.54) 6(1.27,-2.54) 7(0,-3.81) 8(1.27,-3.81) 9(0,-5.08) 10(1.27,-5.08) 11(0,-6.35) 12(1.27,-6.35) 13(0,-7.62) 14(1.27,-7.62) 15(0,-8.89) 16(1.27,-8.89) 17(0,-10.16) 18(1.27,-10.16) 19(0,-11.43) 20(1.27,-11.43) 21(0,-12.7) 22(1.27,-12.7) 23(0,-13.97) 24(1.27,-13.97) 25(0,-15.24) 26(1.27,-15.24) 27(0,-16.51) 28(1.27,-16.51) 29(0,-17.78) 30(1.27,-17.78) 31(0,-19.05) 32(1.27,-19.05) 33(0,-20.32) 34(1.27,-20.32) 35(0,-21.59) 36(1.27,-21.59) 37(0,-22.86) 38(1.27,-22.86) 39(0,-24.13) 40(1.27,-24.13) 41(0,-25.4) 42(1.27,-25.4) 43(0,-26.67) 44(1.27,-26.67) 45(0,-27.94) 46(1.27,-27.94) 47(0,-29.21) 48(1.27,-29.21) 49(0,-30.48) 50(1.27,-30.48)
F.SilkS:
  lines w0.254: -1.18,0 -1.18,0.81 0,0.81 ; -0.667,-0.81 -1.18,-0.81 -1.18,-31.225 -0.318,-31.225 ; 0.318,-31.225 0.952,-31.225 ; 1.588,-31.225 2.45,-31.225 2.45,0.745 1.588,0.745
Top Assembly:
  lines w0.254: -1.07,-31.115 2.34,-31.115 2.34,0.635 -0.218,0.635 -1.07,-0.218 -1.07,-31.115
  text "'.Designator'" at 1.475,-19.287 h1
Top Courtyard:
  lines w0.254: -1.57,-31.62 2.84,-31.62 2.84,1.14 -1.57,1.14 -1.57,-31.62
Top Designator:
  text ".Designator" at -6.983,-15.748 h1.52

## PinHeader_2x25_P1.27mm_Vertical_SMD [mm]
pads (50):
  rect 2.4x0.74 smd: 1(-1.95,15.24) 2(1.95,15.24) 3(-1.95,13.97) 4(1.95,13.97) 5(-1.95,12.7) 6(1.95,12.7) 7(-1.95,11.43) 8(1.95,11.43) 9(-1.95,10.16) 10(1.95,10.16) 11(-1.95,8.89) 12(1.95,8.89) 13(-1.95,7.62) 14(1.95,7.62) 15(-1.95,6.35) 16(1.95,6.35) 17(-1.95,5.08) 18(1.95,5.08) 19(-1.95,3.81) 20(1.95,3.81) 21(-1.95,2.54) 22(1.95,2.54) 23(-1.95,1.27) 24(1.95,1.27) 25(-1.95,0) 26(1.95,0) 27(-1.95,-1.27) 28(1.95,-1.27) 29(-1.95,-2.54) 30(1.95,-2.54) 31(-1.95,-3.81) 32(1.95,-3.81) 33(-1.95,-5.08) 34(1.95,-5.08) 35(-1.95,-6.35) 36(1.95,-6.35) 37(-1.95,-7.62) 38(1.95,-7.62) 39(-1.95,-8.89) 40(1.95,-8.89) 41(-1.95,-10.16) 42(1.95,-10.16) 43(-1.95,-11.43) 44(1.95,-11.43) 45(-1.95,-12.7) 46(1.95,-12.7) 47(-1.95,-13.97) 48(1.95,-13.97) 49(-1.95,-15.24) 50(1.95,-15.24)
F.SilkS:
  lines w0.254: -3.09,15.92 -1.815,15.92 -1.815,15.985 1.815,15.985 1.815,15.92 ; -1.815,-15.92 -1.815,-15.985 1.815,-15.985 1.815,-15.92
Top Assembly:
  drawing of 155 lines, arcs and shapes, not listed
  text "'.Designator'" at 0.84,-4.047 h1
Top Courtyard:
  lines w0.254: -4.29,-16.38 4.29,-16.38 4.29,16.38 -4.29,16.38 -4.29,-16.38
Top Designator:
  text ".Designator" at -7.618,-0.508 h1.52

## PinHeader_2x26_P1.27mm_Horizontal [mm]
pads (52):
  rect 1x1 hole 0.65: 1(0,0)
  round 1 hole 0.65: 2(1.27,0) 3(0,-1.27) 4(1.27,-1.27) 5(0,-2.54) 6(1.27,-2.54) 7(0,-3.81) 8(1.27,-3.81) 9(0,-5.08) 10(1.27,-5.08) 11(0,-6.35) 12(1.27,-6.35) 13(0,-7.62) 14(1.27,-7.62) 15(0,-8.89) 16(1.27,-8.89) 17(0,-10.16) 18(1.27,-10.16) 19(0,-11.43) 20(1.27,-11.43) 21(0,-12.7) 22(1.27,-12.7) 23(0,-13.97) 24(1.27,-13.97) 25(0,-15.24) 26(1.27,-15.24) 27(0,-16.51) 28(1.27,-16.51) 29(0,-17.78) 30(1.27,-17.78) 31(0,-19.05) 32(1.27,-19.05) 33(0,-20.32) 34(1.27,-20.32) 35(0,-21.59) 36(1.27,-21.59) 37(0,-22.86) 38(1.27,-22.86) 39(0,-24.13) 40(1.27,-24.13) 41(0,-25.4) 42(1.27,-25.4) 43(0,-26.67) 44(1.27,-26.67) 45(0,-27.94) 46(1.27,-27.94) 47(0,-29.21) 48(1.27,-29.21) 49(0,-30.48) 50(1.27,-30.48) 51(0,-31.75) 52(1.27,-31.75)
F.SilkS:
  lines w0.254: -0.81,0 -0.81,0.81 0,0.81 ; 1.588,0.745 2.88,0.745 2.88,-32.495 1.66,-32.495 ; 1.773,-31.115 2.88,-31.115 ; 1.773,-29.845 2.88,-29.845 ; 1.773,-28.575 2.88,-28.575 ; 1.773,-27.305 2.88,-27.305 ; 1.773,-26.035 2.88,-26.035 ; 1.773,-24.765 2.88,-24.765 ; 1.773,-23.495 2.88,-23.495 ; 1.773,-22.225 2.88,-22.225 ; 1.773,-20.955 2.88,-20.955 ; 1.773,-19.685 2.88,-19.685 ; 1.773,-18.415 2.88,-18.415 ; 1.773,-17.145 2.88,-17.145 ; 1.773,-15.875 2.88,-15.875 ; 1.773,-14.605 2.88,-14.605 ; 1.773,-13.335 2.88,-13.335 ; 1.773,-12.065 2.88,-12.065 ; 1.773,-10.795 2.88,-10.795 ; 1.773,-9.525 2.88,-9.525 ; 1.773,-8.255 2.88,-8.255 ; 1.773,-6.985 2.88,-6.985 ; 1.773,-5.715 2.88,-5.715 ; 1.773,-4.445 2.88,-4.445 ; 1.773,-3.175 2.88,-3.175 ; 1.773,-1.905 2.88,-1.905 ; 1.773,-0.635 2.88,-0.635 ; 2.88,-32.06 6.88,-32.06 6.88,-31.44 2.88,-31.44 ; 2.88,-30.79 6.88,-30.79 6.88,-30.17 2.88,-30.17 ; 2.88,-29.52 6.88,-29.52 6.88,-28.9 2.88,-28.9 ; 2.88,-28.25 6.88,-28.25 6.88,-27.63 2.88,-27.63 ; 2.88,-26.98 6.88,-26.98 6.88,-26.36 2.88,-26.36 ; 2.88,-25.71 6.88,-25.71 6.88,-25.09 2.88,-25.09 ; 2.88,-24.44 6.88,-24.44 6.88,-23.82 2.88,-23.82 ; 2.88,-23.17 6.88,-23.17 6.88,-22.55 2.88,-22.55 ; 2.88,-21.9 6.88,-21.9 6.88,-21.28 2.88,-21.28 ; 2.88,-20.63 6.88,-20.63 6.88,-20.01 2.88,-20.01 ; 2.88,-19.36 6.88,-19.36 6.88,-18.74 2.88,-18.74 ; 2.88,-18.09 6.88,-18.09 6.88,-17.47 2.88,-17.47 ; 2.88,-16.82 6.88,-16.82 6.88,-16.2 2.88,-16.2 ; 2.88,-15.55 6.88,-15.55 6.88,-14.93 2.88,-14.93 ; 2.88,-14.28 6.88,-14.28 6.88,-13.66 2.88,-13.66 ; 2.88,-13.01 6.88,-13.01 6.88,-12.39 2.88,-12.39 ; 2.88,-11.74 6.88,-11.74 6.88,-11.12 2.88,-11.12 ; 2.88,-10.47 6.88,-10.47 6.88,-9.85 2.88,-9.85 ; 2.88,-9.2 6.88,-9.2 6.88,-8.58 2.88,-8.58 ; 2.88,-7.93 6.88,-7.93 6.88,-7.31 2.88,-7.31 ; 2.88,-6.66 6.88,-6.66 6.88,-6.04 2.88,-6.04 ; 2.88,-5.39 6.88,-5.39 6.88,-4.77 2.88,-4.77 ; 2.88,-4.12 6.88,-4.12 6.88,-3.5 2.88,-3.5 ; 2.88,-2.85 6.88,-2.85 6.88,-2.23 2.88,-2.23 ; 2.88,-1.58 6.88,-1.58 6.88,-0.96 2.88,-0.96 ; 2.88,-0.31 6.88,-0.31 6.88,0.31 2.88,0.31 2.88,-0.31
Top Assembly:
  drawing of 161 lines, arcs and shapes, not listed
  text "'.Designator'" at 2.774,-18.303 h0.6
Top Courtyard:
  lines w0.254: -1.14,-32.89 7.28,-32.89 7.28,1.14 -1.14,1.14 -1.14,-32.89
Top Designator:
  text ".Designator" at -4.548,-16.383 h1.52

## PinHeader_2x26_P1.27mm_Vertical [mm]
pads (52):
  rect 1x1 hole 0.65: 1(0,0)
  round 1 hole 0.65: 2(1.27,0) 3(0,-1.27) 4(1.27,-1.27) 5(0,-2.54) 6(1.27,-2.54) 7(0,-3.81) 8(1.27,-3.81) 9(0,-5.08) 10(1.27,-5.08) 11(0,-6.35) 12(1.27,-6.35) 13(0,-7.62) 14(1.27,-7.62) 15(0,-8.89) 16(1.27,-8.89) 17(0,-10.16) 18(1.27,-10.16) 19(0,-11.43) 20(1.27,-11.43) 21(0,-12.7) 22(1.27,-12.7) 23(0,-13.97) 24(1.27,-13.97) 25(0,-15.24) 26(1.27,-15.24) 27(0,-16.51) 28(1.27,-16.51) 29(0,-17.78) 30(1.27,-17.78) 31(0,-19.05) 32(1.27,-19.05) 33(0,-20.32) 34(1.27,-20.32) 35(0,-21.59) 36(1.27,-21.59) 37(0,-22.86) 38(1.27,-22.86) 39(0,-24.13) 40(1.27,-24.13) 41(0,-25.4) 42(1.27,-25.4) 43(0,-26.67) 44(1.27,-26.67) 45(0,-27.94) 46(1.27,-27.94) 47(0,-29.21) 48(1.27,-29.21) 49(0,-30.48) 50(1.27,-30.48) 51(0,-31.75) 52(1.27,-31.75)
F.SilkS:
  lines w0.254: -1.18,0 -1.18,0.81 0,0.81 ; -0.667,-0.81 -1.18,-0.81 -1.18,-32.495 -0.318,-32.495 ; 0.318,-32.495 0.952,-32.495 ; 1.588,-32.495 2.45,-32.495 2.45,0.745 1.588,0.745
Top Assembly:
  lines w0.254: -1.07,-32.385 2.34,-32.385 2.34,0.635 -0.218,0.635 -1.07,-0.218 -1.07,-32.385
  text "'.Designator'" at 1.475,-19.922 h1
Top Courtyard:
  lines w0.254: -1.57,-32.89 2.84,-32.89 2.84,1.14 -1.57,1.14 -1.57,-32.89
Top Designator:
  text ".Designator" at -6.983,-16.383 h1.52

## PinHeader_2x26_P1.27mm_Vertical_SMD [mm]
pads (52):
  rect 2.4x0.74 smd: 1(-1.95,15.875) 2(1.95,15.875) 3(-1.95,14.605) 4(1.95,14.605) 5(-1.95,13.335) 6(1.95,13.335) 7(-1.95,12.065) 8(1.95,12.065) 9(-1.95,10.795) 10(1.95,10.795) 11(-1.95,9.525) 12(1.95,9.525) 13(-1.95,8.255) 14(1.95,8.255) 15(-1.95,6.985) 16(1.95,6.985) 17(-1.95,5.715) 18(1.95,5.715) 19(-1.95,4.445) 20(1.95,4.445) 21(-1.95,3.175) 22(1.95,3.175) 23(-1.95,1.905) 24(1.95,1.905) 25(-1.95,0.635) 26(1.95,0.635) 27(-1.95,-0.635) 28(1.95,-0.635) 29(-1.95,-1.905) 30(1.95,-1.905) 31(-1.95,-3.175) 32(1.95,-3.175) 33(-1.95,-4.445) 34(1.95,-4.445) 35(-1.95,-5.715) 36(1.95,-5.715) 37(-1.95,-6.985) 38(1.95,-6.985) 39(-1.95,-8.255) 40(1.95,-8.255) 41(-1.95,-9.525) 42(1.95,-9.525) 43(-1.95,-10.795) 44(1.95,-10.795) 45(-1.95,-12.065) 46(1.95,-12.065) 47(-1.95,-13.335) 48(1.95,-13.335) 49(-1.95,-14.605) 50(1.95,-14.605) 51(-1.95,-15.875) 52(1.95,-15.875)
F.SilkS:
  lines w0.254: -3.09,16.555 -1.815,16.555 -1.815,16.62 1.815,16.62 1.815,16.555 ; -1.815,-16.555 -1.815,-16.62 1.815,-16.62 1.815,-16.555
Top Assembly:
  drawing of 161 lines, arcs and shapes, not listed
  text "'.Designator'" at 0.84,-4.047 h1
Top Courtyard:
  lines w0.254: -4.29,-17.01 4.29,-17.01 4.29,17.01 -4.29,17.01 -4.29,-17.01
Top Designator:
  text ".Designator" at -7.618,-0.508 h1.52

## PinHeader_2x27_P1.27mm_Horizontal [mm]
pads (54):
  rect 1x1 hole 0.65: 1(0,0)
  round 1 hole 0.65: 2(1.27,0) 3(0,-1.27) 4(1.27,-1.27) 5(0,-2.54) 6(1.27,-2.54) 7(0,-3.81) 8(1.27,-3.81) 9(0,-5.08) 10(1.27,-5.08) 11(0,-6.35) 12(1.27,-6.35) 13(0,-7.62) 14(1.27,-7.62) 15(0,-8.89) 16(1.27,-8.89) 17(0,-10.16) 18(1.27,-10.16) 19(0,-11.43) 20(1.27,-11.43) 21(0,-12.7) 22(1.27,-12.7) 23(0,-13.97) 24(1.27,-13.97) 25(0,-15.24) 26(1.27,-15.24) 27(0,-16.51) 28(1.27,-16.51) 29(0,-17.78) 30(1.27,-17.78) 31(0,-19.05) 32(1.27,-19.05) 33(0,-20.32) 34(1.27,-20.32) 35(0,-21.59) 36(1.27,-21.59) 37(0,-22.86) 38(1.27,-22.86) 39(0,-24.13) 40(1.27,-24.13) 41(0,-25.4) 42(1.27,-25.4) 43(0,-26.67) 44(1.27,-26.67) 45(0,-27.94) 46(1.27,-27.94) 47(0,-29.21) 48(1.27,-29.21) 49(0,-30.48) 50(1.27,-30.48) 51(0,-31.75) 52(1.27,-31.75) 53(0,-33.02) 54(1.27,-33.02)
F.SilkS:
  lines w0.254: -0.81,0 -0.81,0.81 0,0.81 ; 1.588,0.745 2.88,0.745 2.88,-33.765 1.66,-33.765 ; 1.773,-32.385 2.88,-32.385 ; 1.773,-31.115 2.88,-31.115 ; 1.773,-29.845 2.88,-29.845 ; 1.773,-28.575 2.88,-28.575 ; 1.773,-27.305 2.88,-27.305 ; 1.773,-26.035 2.88,-26.035 ; 1.773,-24.765 2.88,-24.765 ; 1.773,-23.495 2.88,-23.495 ; 1.773,-22.225 2.88,-22.225 ; 1.773,-20.955 2.88,-20.955 ; 1.773,-19.685 2.88,-19.685 ; 1.773,-18.415 2.88,-18.415 ; 1.773,-17.145 2.88,-17.145 ; 1.773,-15.875 2.88,-15.875 ; 1.773,-14.605 2.88,-14.605 ; 1.773,-13.335 2.88,-13.335 ; 1.773,-12.065 2.88,-12.065 ; 1.773,-10.795 2.88,-10.795 ; 1.773,-9.525 2.88,-9.525 ; 1.773,-8.255 2.88,-8.255 ; 1.773,-6.985 2.88,-6.985 ; 1.773,-5.715 2.88,-5.715 ; 1.773,-4.445 2.88,-4.445 ; 1.773,-3.175 2.88,-3.175 ; 1.773,-1.905 2.88,-1.905 ; 1.773,-0.635 2.88,-0.635 ; 2.88,-33.33 6.88,-33.33 6.88,-32.71 2.88,-32.71 ; 2.88,-32.06 6.88,-32.06 6.88,-31.44 2.88,-31.44 ; 2.88,-30.79 6.88,-30.79 6.88,-30.17 2.88,-30.17 ; 2.88,-29.52 6.88,-29.52 6.88,-28.9 2.88,-28.9 ; 2.88,-28.25 6.88,-28.25 6.88,-27.63 2.88,-27.63 ; 2.88,-26.98 6.88,-26.98 6.88,-26.36 2.88,-26.36 ; 2.88,-25.71 6.88,-25.71 6.88,-25.09 2.88,-25.09 ; 2.88,-24.44 6.88,-24.44 6.88,-23.82 2.88,-23.82 ; 2.88,-23.17 6.88,-23.17 6.88,-22.55 2.88,-22.55 ; 2.88,-21.9 6.88,-21.9 6.88,-21.28 2.88,-21.28 ; 2.88,-20.63 6.88,-20.63 6.88,-20.01 2.88,-20.01 ; 2.88,-19.36 6.88,-19.36 6.88,-18.74 2.88,-18.74 ; 2.88,-18.09 6.88,-18.09 6.88,-17.47 2.88,-17.47 ; 2.88,-16.82 6.88,-16.82 6.88,-16.2 2.88,-16.2 ; 2.88,-15.55 6.88,-15.55 6.88,-14.93 2.88,-14.93 ; 2.88,-14.28 6.88,-14.28 6.88,-13.66 2.88,-13.66 ; 2.88,-13.01 6.88,-13.01 6.88,-12.39 2.88,-12.39 ; 2.88,-11.74 6.88,-11.74 6.88,-11.12 2.88,-11.12 ; 2.88,-10.47 6.88,-10.47 6.88,-9.85 2.88,-9.85 ; 2.88,-9.2 6.88,-9.2 6.88,-8.58 2.88,-8.58 ; 2.88,-7.93 6.88,-7.93 6.88,-7.31 2.88,-7.31 ; 2.88,-6.66 6.88,-6.66 6.88,-6.04 2.88,-6.04 ; 2.88,-5.39 6.88,-5.39 6.88,-4.77 2.88,-4.77 ; 2.88,-4.12 6.88,-4.12 6.88,-3.5 2.88,-3.5 ; 2.88,-2.85 6.88,-2.85 6.88,-2.23 2.88,-2.23 ; 2.88,-1.58 6.88,-1.58 6.88,-0.96 2.88,-0.96 ; 2.88,-0.31 6.88,-0.31 6.88,0.31 2.88,0.31 2.88,-0.31
Top Assembly:
  drawing of 167 lines, arcs and shapes, not listed
  text "'.Designator'" at 2.774,-18.938 h0.6
Top Courtyard:
  lines w0.254: -1.14,-34.16 7.28,-34.16 7.28,1.14 -1.14,1.14 -1.14,-34.16
Top Designator:
  text ".Designator" at -4.548,-17.018 h1.52

## PinHeader_2x27_P1.27mm_Vertical [mm]
pads (54):
  rect 1x1 hole 0.65: 1(0,0)
  round 1 hole 0.65: 2(1.27,0) 3(0,-1.27) 4(1.27,-1.27) 5(0,-2.54) 6(1.27,-2.54) 7(0,-3.81) 8(1.27,-3.81) 9(0,-5.08) 10(1.27,-5.08) 11(0,-6.35) 12(1.27,-6.35) 13(0,-7.62) 14(1.27,-7.62) 15(0,-8.89) 16(1.27,-8.89) 17(0,-10.16) 18(1.27,-10.16) 19(0,-11.43) 20(1.27,-11.43) 21(0,-12.7) 22(1.27,-12.7) 23(0,-13.97) 24(1.27,-13.97) 25(0,-15.24) 26(1.27,-15.24) 27(0,-16.51) 28(1.27,-16.51) 29(0,-17.78) 30(1.27,-17.78) 31(0,-19.05) 32(1.27,-19.05) 33(0,-20.32) 34(1.27,-20.32) 35(0,-21.59) 36(1.27,-21.59) 37(0,-22.86) 38(1.27,-22.86) 39(0,-24.13) 40(1.27,-24.13) 41(0,-25.4) 42(1.27,-25.4) 43(0,-26.67) 44(1.27,-26.67) 45(0,-27.94) 46(1.27,-27.94) 47(0,-29.21) 48(1.27,-29.21) 49(0,-30.48) 50(1.27,-30.48) 51(0,-31.75) 52(1.27,-31.75) 53(0,-33.02) 54(1.27,-33.02)
F.SilkS:
  lines w0.254: -1.18,0 -1.18,0.81 0,0.81 ; -0.667,-0.81 -1.18,-0.81 -1.18,-33.765 -0.318,-33.765 ; 0.318,-33.765 0.952,-33.765 ; 1.588,-33.765 2.45,-33.765 2.45,0.745 1.588,0.745
Top Assembly:
  lines w0.254: -1.07,-33.655 2.34,-33.655 2.34,0.635 -0.218,0.635 -1.07,-0.218 -1.07,-33.655
  text "'.Designator'" at 1.475,-20.557 h1
Top Courtyard:
  lines w0.254: -1.57,-34.16 2.84,-34.16 2.84,1.14 -1.57,1.14 -1.57,-34.16
Top Designator:
  text ".Designator" at -6.983,-17.018 h1.52

## PinHeader_2x27_P1.27mm_Vertical_SMD [mm]
pads (54):
  rect 2.4x0.74 smd: 1(-1.95,16.51) 2(1.95,16.51) 3(-1.95,15.24) 4(1.95,15.24) 5(-1.95,13.97) 6(1.95,13.97) 7(-1.95,12.7) 8(1.95,12.7) 9(-1.95,11.43) 10(1.95,11.43) 11(-1.95,10.16) 12(1.95,10.16) 13(-1.95,8.89) 14(1.95,8.89) 15(-1.95,7.62) 16(1.95,7.62) 17(-1.95,6.35) 18(1.95,6.35) 19(-1.95,5.08) 20(1.95,5.08) 21(-1.95,3.81) 22(1.95,3.81) 23(-1.95,2.54) 24(1.95,2.54) 25(-1.95,1.27) 26(1.95,1.27) 27(-1.95,0) 28(1.95,0) 29(-1.95,-1.27) 30(1.95,-1.27) 31(-1.95,-2.54) 32(1.95,-2.54) 33(-1.95,-3.81) 34(1.95,-3.81) 35(-1.95,-5.08) 36(1.95,-5.08) 37(-1.95,-6.35) 38(1.95,-6.35) 39(-1.95,-7.62) 40(1.95,-7.62) 41(-1.95,-8.89) 42(1.95,-8.89) 43(-1.95,-10.16) 44(1.95,-10.16) 45(-1.95,-11.43) 46(1.95,-11.43) 47(-1.95,-12.7) 48(1.95,-12.7) 49(-1.95,-13.97) 50(1.95,-13.97) 51(-1.95,-15.24) 52(1.95,-15.24) 53(-1.95,-16.51) 54(1.95,-16.51)
F.SilkS:
  lines w0.254: -3.09,17.19 -1.815,17.19 -1.815,17.255 1.815,17.255 1.815,17.19 ; -1.815,-17.19 -1.815,-17.255 1.815,-17.255 1.815,-17.19
Top Assembly:
  drawing of 167 lines, arcs and shapes, not listed
  text "'.Designator'" at 0.84,-4.047 h1
Top Courtyard:
  lines w0.254: -4.29,-17.65 4.29,-17.65 4.29,17.65 -4.29,17.65 -4.29,-17.65
Top Designator:
  text ".Designator" at -7.618,-0.508 h1.52

## PinHeader_2x28_P1.27mm_Horizontal [mm]
pads (56):
  rect 1x1 hole 0.65: 1(0,0)
  round 1 hole 0.65: 2(1.27,0) 3(0,-1.27) 4(1.27,-1.27) 5(0,-2.54) 6(1.27,-2.54) 7(0,-3.81) 8(1.27,-3.81) 9(0,-5.08) 10(1.27,-5.08) 11(0,-6.35) 12(1.27,-6.35) 13(0,-7.62) 14(1.27,-7.62) 15(0,-8.89) 16(1.27,-8.89) 17(0,-10.16) 18(1.27,-10.16) 19(0,-11.43) 20(1.27,-11.43) 21(0,-12.7) 22(1.27,-12.7) 23(0,-13.97) 24(1.27,-13.97) 25(0,-15.24) 26(1.27,-15.24) 27(0,-16.51) 28(1.27,-16.51) 29(0,-17.78) 30(1.27,-17.78) 31(0,-19.05) 32(1.27,-19.05) 33(0,-20.32) 34(1.27,-20.32) 35(0,-21.59) 36(1.27,-21.59) 37(0,-22.86) 38(1.27,-22.86) 39(0,-24.13) 40(1.27,-24.13) 41(0,-25.4) 42(1.27,-25.4) 43(0,-26.67) 44(1.27,-26.67) 45(0,-27.94) 46(1.27,-27.94) 47(0,-29.21) 48(1.27,-29.21) 49(0,-30.48) 50(1.27,-30.48) 51(0,-31.75) 52(1.27,-31.75) 53(0,-33.02) 54(1.27,-33.02) 55(0,-34.29) 56(1.27,-34.29)
F.SilkS:
  lines w0.254: -0.81,0 -0.81,0.81 0,0.81 ; 1.588,0.745 2.88,0.745 2.88,-35.035 1.66,-35.035 ; 1.773,-33.655 2.88,-33.655 ; 1.773,-32.385 2.88,-32.385 ; 1.773,-31.115 2.88,-31.115 ; 1.773,-29.845 2.88,-29.845 ; 1.773,-28.575 2.88,-28.575 ; 1.773,-27.305 2.88,-27.305 ; 1.773,-26.035 2.88,-26.035 ; 1.773,-24.765 2.88,-24.765 ; 1.773,-23.495 2.88,-23.495 ; 1.773,-22.225 2.88,-22.225 ; 1.773,-20.955 2.88,-20.955 ; 1.773,-19.685 2.88,-19.685 ; 1.773,-18.415 2.88,-18.415 ; 1.773,-17.145 2.88,-17.145 ; 1.773,-15.875 2.88,-15.875 ; 1.773,-14.605 2.88,-14.605 ; 1.773,-13.335 2.88,-13.335 ; 1.773,-12.065 2.88,-12.065 ; 1.773,-10.795 2.88,-10.795 ; 1.773,-9.525 2.88,-9.525 ; 1.773,-8.255 2.88,-8.255 ; 1.773,-6.985 2.88,-6.985 ; 1.773,-5.715 2.88,-5.715 ; 1.773,-4.445 2.88,-4.445 ; 1.773,-3.175 2.88,-3.175 ; 1.773,-1.905 2.88,-1.905 ; 1.773,-0.635 2.88,-0.635 ; 2.88,-34.6 6.88,-34.6 6.88,-33.98 2.88,-33.98 ; 2.88,-33.33 6.88,-33.33 6.88,-32.71 2.88,-32.71 ; 2.88,-32.06 6.88,-32.06 6.88,-31.44 2.88,-31.44 ; 2.88,-30.79 6.88,-30.79 6.88,-30.17 2.88,-30.17 ; 2.88,-29.52 6.88,-29.52 6.88,-28.9 2.88,-28.9 ; 2.88,-28.25 6.88,-28.25 6.88,-27.63 2.88,-27.63 ; 2.88,-26.98 6.88,-26.98 6.88,-26.36 2.88,-26.36 ; 2.88,-25.71 6.88,-25.71 6.88,-25.09 2.88,-25.09 ; 2.88,-24.44 6.88,-24.44 6.88,-23.82 2.88,-23.82 ; 2.88,-23.17 6.88,-23.17 6.88,-22.55 2.88,-22.55 ; 2.88,-21.9 6.88,-21.9 6.88,-21.28 2.88,-21.28 ; 2.88,-20.63 6.88,-20.63 6.88,-20.01 2.88,-20.01 ; 2.88,-19.36 6.88,-19.36 6.88,-18.74 2.88,-18.74 ; 2.88,-18.09 6.88,-18.09 6.88,-17.47 2.88,-17.47 ; 2.88,-16.82 6.88,-16.82 6.88,-16.2 2.88,-16.2 ; 2.88,-15.55 6.88,-15.55 6.88,-14.93 2.88,-14.93 ; 2.88,-14.28 6.88,-14.28 6.88,-13.66 2.88,-13.66 ; 2.88,-13.01 6.88,-13.01 6.88,-12.39 2.88,-12.39 ; 2.88,-11.74 6.88,-11.74 6.88,-11.12 2.88,-11.12 ; 2.88,-10.47 6.88,-10.47 6.88,-9.85 2.88,-9.85 ; 2.88,-9.2 6.88,-9.2 6.88,-8.58 2.88,-8.58 ; 2.88,-7.93 6.88,-7.93 6.88,-7.31 2.88,-7.31 ; 2.88,-6.66 6.88,-6.66 6.88,-6.04 2.88,-6.04 ; 2.88,-5.39 6.88,-5.39 6.88,-4.77 2.88,-4.77 ; 2.88,-4.12 6.88,-4.12 6.88,-3.5 2.88,-3.5 ; 2.88,-2.85 6.88,-2.85 6.88,-2.23 2.88,-2.23 ; 2.88,-1.58 6.88,-1.58 6.88,-0.96 2.88,-0.96 ; 2.88,-0.31 6.88,-0.31 6.88,0.31 2.88,0.31 2.88,-0.31
Top Assembly:
  drawing of 173 lines, arcs and shapes, not listed
  text "'.Designator'" at 2.774,-19.573 h0.6
Top Courtyard:
  lines w0.254: -1.14,-35.43 7.28,-35.43 7.28,1.14 -1.14,1.14 -1.14,-35.43
Top Designator:
  text ".Designator" at -4.548,-17.653 h1.52